# Altium schematic symbol library SRN1060-101M.SchLib: 1 symbol
Pins are listed as number, name and electrical type; pins without a type are passive.

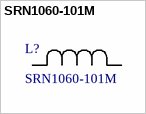
[diagram p0: symbol SRN1060-101M]

## SRN1060-101M
designator L?
Description; Manufacturer_Name: Bourns Electronics; Copyright: Copyright (C) 2025 Ultra Librarian. All rights reserved.; Manufacturer_Part_Number: SRN1060-101M
footprint IND_BOURNS_SRN1060
pins: 1, 2